# Altium integrated library EXBU24510JX (1).IntLib: 1 symbol
Pins are listed as number, name and electrical type; pins without a type are passive.

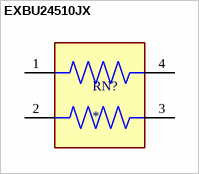
[diagram p0: symbol EXBU24510JX]

## EXBU24510JX
designator RN?
Series/Type: Anti-Sulfurated Chip Resistor Array, Power Rating (W): 0.063, Chip Size (LxW) (mm): 1.0 X 1.0, Resistance Values (â„¦): 51, Resistance Tolerance (%): 5, Terminal Pitch (mm): 0.65, Type of Circuit: Isolated Circuit, Number of Elements (piece):; MF: Panasonic; MP: EXBU24510JX; SnapEDA_Link: https://www.snapeda.com/parts/EXBU24510JX/Panasonic/view-part/?ref=snap; Package: NON STANDARD-4 Panasonic; Value: *; Check_prices: https://www.snapeda.com/parts/EXBU24510JX/Panasonic/view-part/?ref=eda
footprint RESCAXE_EXBU24510JX
pins: 1, 2, 3, 4